# EAGLE library part NRF51X22_QF (library Nordic_nRF)
nRF51x22 For devices: nRF51422 nRF51822 Features Single chip, highly flexible, 2.4 GHz multi-protocol device 32-bit ARM Cortex M0 CPU core 256kB/128kB flash + 32kB/16kB RAM Supports Bluetooth low energy protocol stacks Thread safe and run-time protected Event driven API On air compatible with nRF24L series 3 data rates (2Mbps/1Mbps/250kbps) +4dBm output power -93dBm sensitivity, Bluetooth low energy PPI system for maximum power-efficient applications and code simplification Flexible power management system with automatic power management of each peripheral Configurable I/O mapping for analog and digital I/O Applications Mobile phone accessories Wearables Beacons Rezence wireless charging monitoring PC peripherals Consumer Electronics (CE) remote controls Proximity/Alert sensors Smart Home Sports, fitness and healthcare sensors Smart RF tags Toys and electronic games Intelligent domestic appliances Industrial and commercial sensors Lighting
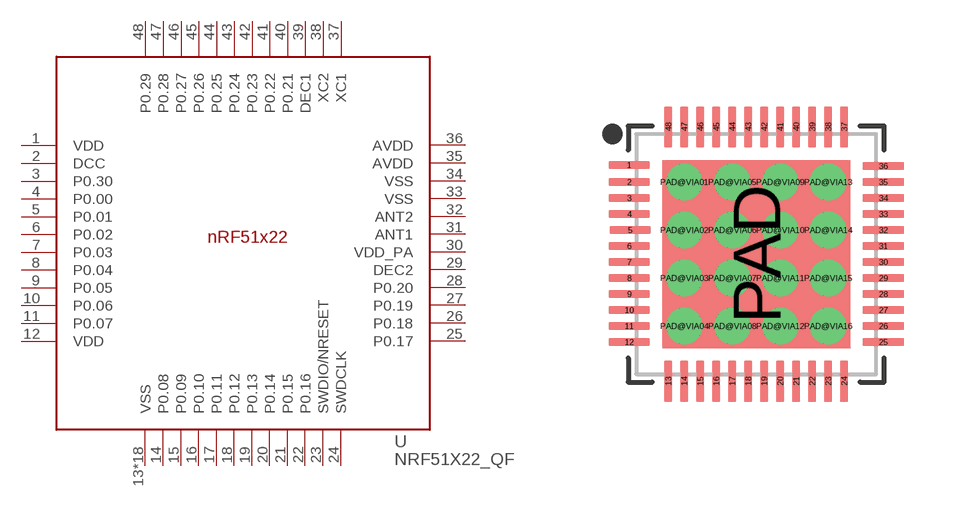
[diagram p3: symbol with the pads of QFN40P600X600X90-48_N; footprint QFN40P600X600X90-48_N]

Designator prefix -

## NRF51X22_QFQF  [QFN40P600X600X90-48_N]
1  VDD  pwr
2  DCC  pwr
3  P0.30
4  P0.00
5  P0.01
6  P0.02
7  P0.03
8  P0.04
9  P0.05
10  P0.06
11  P0.07
12  VDD  pwr
13  VSS  pwr
14  P0.08
15  P0.09
16  P0.10
17  P0.11
18  P0.12
19  P0.13
20  P0.14
21  P0.15
22  P0.16
23  SWDIO/NRESET
24  SWDCLK  in
25  P0.17
26  P0.18
27  P0.19
28  P0.20
29  DEC2  pwr
30  VDD_PA  pwr
31  ANT1
32  ANT2
33  VSS  pwr
34  VSS  pwr
35  AVDD  pwr
36  AVDD  pwr
37  XC1
38  XC2
39  DEC1  pwr
40  P0.21
41  P0.22
42  P0.23
43  P0.24
44  P0.25
45  P0.26
46  P0.27
47  P0.28
48  P0.29
PAD  VSS  pwr
PAD@VIA01  VSS  pwr
PAD@VIA02  VSS  pwr
PAD@VIA03  VSS  pwr
PAD@VIA04  VSS  pwr
PAD@VIA05  VSS  pwr
PAD@VIA06  VSS  pwr
PAD@VIA07  VSS  pwr
PAD@VIA08  VSS  pwr
PAD@VIA09  VSS  pwr
PAD@VIA10  VSS  pwr
PAD@VIA11  VSS  pwr
PAD@VIA12  VSS  pwr
PAD@VIA13  VSS  pwr
PAD@VIA14  VSS  pwr
PAD@VIA15  VSS  pwr
PAD@VIA16  VSS  pwr

## Footprint QFN40P600X600X90-48_N (pad centres in mm)
QFN40P600X600X90-48N QFN, 48-Leads Body 6.0x6.0mm (max) Pitch 0.40mm IPC Medium Density
smd 1.031 x 0.2: 1 -3.178,2.225; 2 -3.178,1.8; 3 -3.178,1.4; 4 -3.178,1; 5 -3.152,0.6; 6 -3.178,0.2; 7 -3.178,-0.2; 8 -3.178,-0.6; 9 -3.178,-1; 10 -3.178,-1.4; 11 -3.178,-1.8; 12 -3.178,-2.2; 25 3.178,-2.2; 26 3.178,-1.8; 27 3.178,-1.4; 28 3.178,-1; 29 3.178,-0.6; 30 3.178,-0.2; 31 3.178,0.2; 32 3.178,0.6; 33 3.178,1; 34 3.178,1.4; 35 3.178,1.8; 36 3.178,2.2
smd 0.2 x 1.031: 13 -2.2,-3.178; 14 -1.8,-3.178; 15 -1.4,-3.178; 16 -1,-3.178; 17 -0.6,-3.178; 18 -0.2,-3.178; 19 0.2,-3.178; 20 0.6,-3.178; 21 1,-3.178; 22 1.4,-3.178; 23 1.8,-3.178; 24 2.2,-3.178; 37 2.2,3.178; 38 1.8,3.178; 39 1.4,3.178; 40 1,3.178; 41 0.6,3.178; 42 0.2,3.178; 43 -0.2,3.178; 44 -0.6,3.178; 45 -1,3.178; 46 -1.4,3.178; 47 -1.8,3.178; 48 -2.2,3.178
smd 4.7 x 4.7: PAD 0,0
drill 0.4: PAD@VIA01 -1.8,1.8; PAD@VIA02 -1.8,0.6; PAD@VIA03 -1.8,-0.6; PAD@VIA04 -1.8,-1.8; PAD@VIA05 -0.6,1.8; PAD@VIA06 -0.6,0.6; PAD@VIA07 -0.6,-0.6; PAD@VIA08 -0.6,-1.8; PAD@VIA09 0.6,1.8; PAD@VIA10 0.6,0.6; PAD@VIA11 0.6,-0.6; PAD@VIA12 0.6,-1.8; PAD@VIA13 1.8,1.8; PAD@VIA14 1.8,0.6; PAD@VIA15 1.8,-0.6; PAD@VIA16 1.8,-1.8